# Altium footprint library NetTie.PcbLib: 19 footprints (part 2 of 2)
Each footprint in its own frame and in the unit in brackets; x right, y up, seen from the top. Pads: shape width x height; smd on the part's side, far side on the other; paste and mask are expansions set on the pad; w line width, h text height; cw(c..) or ccw(c..) is an arc to the next point about the centre after c.
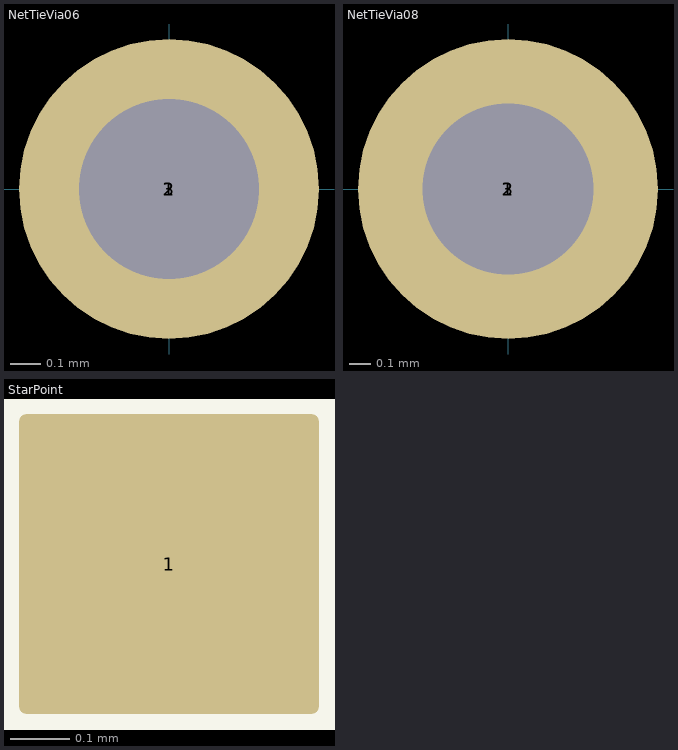
[diagram p1: the footprints below, top view; thin cyan lines are the x and y axes]

## NetTieVia06 [mm] "Net Tie Via 0.6mm"
height 0.025
pads (3):
  round 1 hole 0.6 paste-2.032: 1(0,0) 2(0,0) 3(0,0)

## NetTieVia08 [mm] "Net Tie Via 0.8mm"
height 0.025
pads (3):
  round 1.4 hole 0.8 paste-2.032: 1(0,0) 2(0,0) 3(0,0)

## StarPoint [mil] "Star point for definition of starburst topology"
height 1
pads (1):
  rrect5% 20x20 smd paste-20: 1(0,0)
Top Overlay:
  lines w7.87: -10,-10 -10,10 10,10 10,-10 -10,-10